# Altium schematic symbol library Pushbutton - Large.Schlib: 1 symbol
Pins are listed as number, name and electrical type; pins without a type are passive.

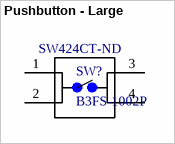
[diagram p0: symbol Pushbutton - Large]

## Pushbutton - Large
designator SW?, comment B3FS-1002P  Supplier Part Number 1: SW424CT-ND
Schematic symbol for a generic 4-pin pushbutton (duplicate pins). Larger in size, used for System PCB reset.; Supplier 1: Digi-Key; ComponentLink1Description: Series Datasheet; ComponentLink1URL: https://omronfs.omron.com/en_US/ecb/products/pdf/en-b3fs.pdf
footprint Pushbutton - Large - 5-1437565-0
pins: 1, 2, 3, 4